# Altium schematic symbol library Isengard.SchLib: 64 symbols
Pins are listed as number, name and electrical type; pins without a type are passive.

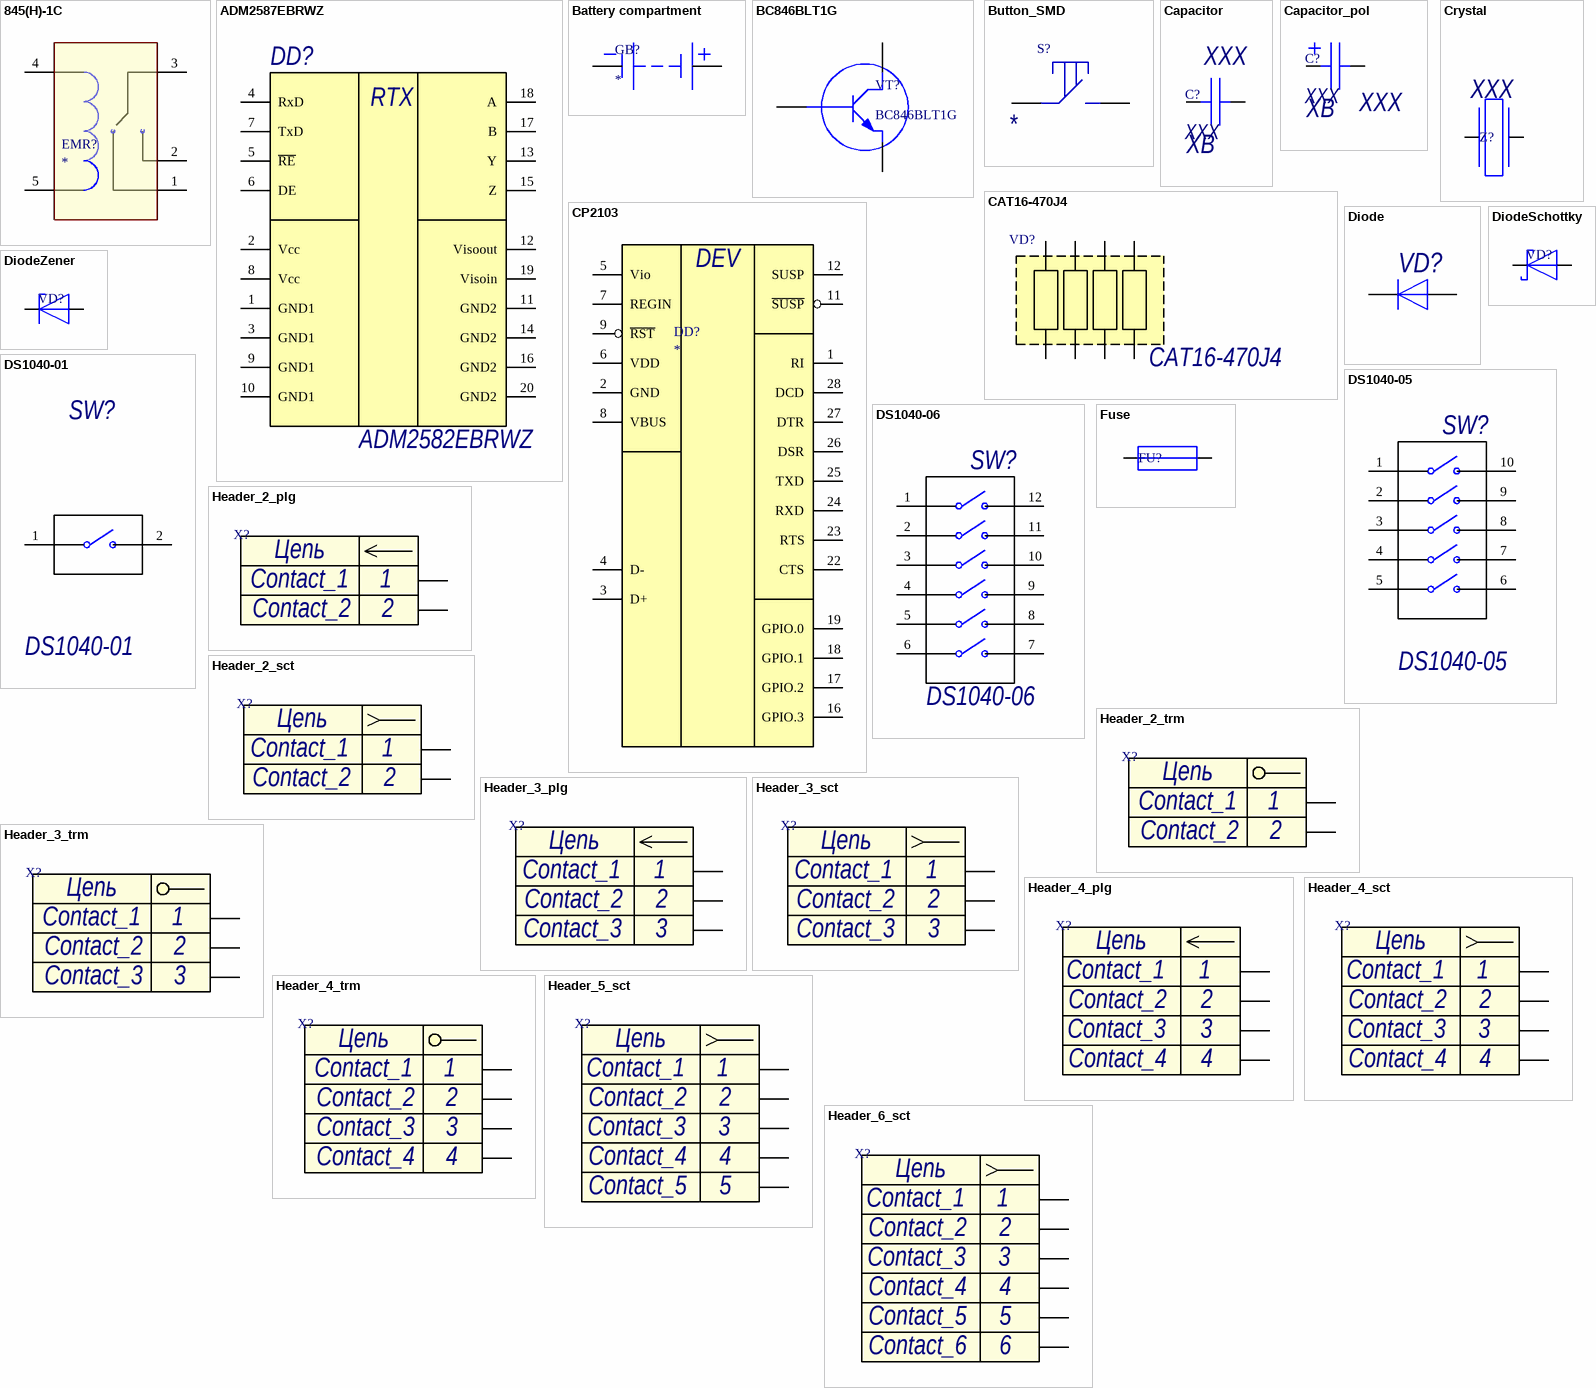
[diagram p0: symbols 845(H)-1C to Header_6_sct]

## 845(H)-1C
designator EMR?
Электромагнитное реле
footprint EMR 845(H)-1C
pins: 1 pos1, 2 pos2, 3 base, 4 sw1, 5 sw2

## ADM2587EBRWZ
designator DD?, comment ADM2582EBRWZ
Приемопередатчик RS485 изолированный; Link: *; Name: ADM2582EBRWZ
footprint SOP20
pins: 1 GND1, 2 Vcc, 3 GND1, 4 RxD, 5 ~{RE}, 6 DE, 7 TxD, 8 Vcc, 9 GND1, 10 GND1, 11 GND2, 12 Visoout, 13 Y, 14 GND2, 15 Z, 16 GND2, 17 B, 18 A, 19 Visoin, 20 GND2
text: RTX

## Battery compartment
designator GB?
Value: *
footprint KLS5-818-С (Батарейный отсек 3хААА)
pins: 1, 2

## BC846BLT1G
designator VT?
footprint SOT23-3
pins: 1 Base, 2 Emitter, 3 Collector

## Button_SMD
designator S?
Кнопка; Name: *
footprint Button_SMD (Кнопка)
footprint Button_SMD_12х12 (Кнопка)
pins: 1, 4

## Capacitor
designator C?, comment XXX  Voltage: XВ
Конденсатор; Value: XXX
footprint C0603
footprint C1206
footprint C0805
pins: 1, 2

## Capacitor_pol
designator C?, comment XXX  Voltage: XВ
Конденсатор полярный; Value: XXX
footprint SMA
footprint C1206
footprint TANTAL CASE D (Конденсатор танталовый SMD)
footprint TANTAL CASE B (Конденсатор электролитический танталовый)
pins: 1, 2

## CAT16-470J4
designator VD?
Сборка резисторов; Name: CAT16-470J4
footprint smd 0603x4 (Резисторная сборка)
pins: 1, 2, 3, 4, 5, 6, 7, 8

## CP2103
designator DD?
Преобразователь интерфейсов USB-UART
footprint CP2103 (QFN, 28-Leads, Body 5,0x5,0mm (max), Pitch 0,50mm, IPC Medium Density)
pins: 1 RI, 2 GND, 3 D+, 4 D-, 5 Vio, 6 VDD, 7 REGIN, 8 VBUS, 9 ~{RST}, 11 ~{SUSP}, 12 SUSP, 16 GPIO.3, 17 GPIO.2, 18 GPIO.1, 19 GPIO.0, 22 CTS, 23 RTS, 24 RXD, 25 TXD, 26 DSR, 27 DTR, 28 DCD
text: DEV

## Crystal
designator Z?, comment XXX
Кварцевый резонатор; Value: XXX
footprint QSMD3.2x2.5_A
footprint QSMD3.2x2.5_H
footprint HC-49SM (Кварцевый резонатор поверхностного монтажа)
pins: 1, 2

## Diode
designator VD?
Диод
footprint SOD-323
footprint SOD523
pins: 1 K, 2 A

## DiodeSchottky
designator VD?
Диод Шоттки
footprint SOD523_A
footprint SOD523_H
footprint SOD123_A
footprint SOD123_H
footprint SMA
pins: 1 K, 2 A

## DiodeZener
designator VD?
Стабилитрон
footprint SOD523_A
footprint SOD523_H
footprint SOT23-2_A
footprint SOT23-2_H
footprint SMA
pins: 1 K, 2 A

## DS1040-01
designator SW?
DIP переключатель
footprint DIP1
footprint KLS7-SS03 (Переключатель движковый)
pins: 1, 2

## DS1040-05
designator SW?
DIP переключатель
footprint DIP5
pins: 1, 2, 3, 4, 5, 6, 7, 8, 9, 10

## DS1040-06
designator SW?
DIP переключатель
footprint DIP6
pins: 1, 2, 3, 4, 5, 6, 7, 8, 9, 10, 11, 12

## Fuse
designator FU?
Предохранитель; Value: XXX
footprint R0805_H
footprint R0805_A
footprint R0603_A
footprint R0402_H
footprint FH - 102
footprint MF - R050 (Самовосстанавливающийся предохранитель)
footprint F5.1
pins: 1, 2

## Header_2_plg
designator X?
Разъем - 2 конт. вилка; Contact_1: Contact_1; Contact_2: Contact_2
footprint CWF-2
footprint Terminal_2.54-2
footprint PWL-2R
footprint PBS2-2
footprint MW-2M
footprint MW-2MR
footprint MOLEX_picoblade_2
pins: 1, 2
text: Цепь

## Header_2_sct
designator X?
Разъем - 2 конт. розетка; Contact_1: Contact_1; Contact_2: Contact_2
footprint Terminal_2.54-2
footprint PWL-2R
footprint PBS2-2
footprint MW-2M
footprint MW-2MR
footprint MOLEX_picoblade_2
footprint CWF-2
footprint 2HOLE
footprint DYNAMIC (Разъем для динамика)
footprint USB-B Micro 2pin
pins: 1, 2
text: Цепь

## Header_2_trm
designator X?
Разъем - 2 конт. клемма; Contact_1: Contact_1; Contact_2: Contact_2
footprint Terminal_2.54-2
footprint PWL-2R
footprint PBS2-2
footprint MW-2M
footprint MW-2MR
footprint MOLEX_picoblade_2
footprint MF_2x1_H
pins: 1, 2
text: Цепь

## Header_3_plg
designator X?
Разъем - 3 конт. вилка; Contact_1: Contact_1; Contact_2: Contact_2; Contact_3: Contact_3
footprint POWJACK
footprint CWF-3
footprint CWF-3R
pins: 1, 2, 3
text: Цепь

## Header_3_sct
designator X?
Разъем - 2 конт. розетка; Contact_1: Contact_1; Contact_2: Contact_2; Contact_3: Contact_3
footprint MW-3MR
footprint CWF-3
footprint CWF-3R
footprint MOLEX_picoblade_3
footprint MOLEX_picoblade_3R
footprint PWL-3R
footprint MW-3M
footprint PLS2-3
footprint 3HOLE_WIRE (3 отверстия под провода)
pins: 1, 2, 3
text: Цепь

## Header_3_trm
designator X?
Разъем - 3 конт. клемма; Contact_1: Contact_1; Contact_3: Contact_3; Contact_2: Contact_2
footprint DT-128V-3
pins: 1, 2, 3
text: Цепь

## Header_4_plg
designator X?
Разъем - 4 конт. вилка; Contact_1: Contact_1; Contact_2: Contact_2; Contact_3: Contact_3; Contact_4: Contact_4
footprint MOLEX_picoblade_4
footprint MOLEX_picoblade_4R
footprint MW-4M
footprint MW-4MR
footprint PLS-4
footprint 4HOLE_WIRE (4 отверстия под провода)
pins: 1, 2, 3, 4
text: Цепь

## Header_4_sct
designator X?
Разъем - 4 конт. розетка; Contact_1: Contact_1; Contact_2: Contact_2; Contact_3: Contact_3; Contact_4: Contact_4
footprint MOLEX_picoblade_4
footprint MOLEX_picoblade_4R
footprint MW-4M
footprint MW-4MR
footprint PLS-4
footprint USB-Mini
footprint USB-Mini - duplicate
footprint USB-Mini DIP
footprint USBB-J1
footprint USB-B Micro
footprint 4HOLE_WIRE (4 отверстия под провода)
pins: 1, 2, 3, 4
text: Цепь

## Header_4_trm
designator X?
Разъем - 3 конт. клемма; Contact_1: Contact_1; Contact_3: Contact_3; Contact_2: Contact_2; Contact_4: Contact_4
footprint DT-128V-4
footprint CWF-4
pins: 1, 2, 2, 2
text: Цепь; 3; 4

## Header_5_sct
designator X?
Разъем - 4 конт. розетка; Contact_1: Contact_1; Contact_2: Contact_2; Contact_3: Contact_3; Contact_4: Contact_4; Contact_5: Contact_5
footprint USB-B Micro
footprint MW-5M
footprint MW-5MR
footprint MOLEX_picoblade_5
footprint CWF-5R
footprint 5HOLE_WIRE (5 отверстий под провода)
pins: 1, 2, 3, 4, 5
text: Цепь

## Header_6_sct
designator X?
Разъем - 5 конт. розетка; Contact_1: Contact_1; Contact_2: Contact_2; Contact_3: Contact_3; Contact_4: Contact_4; Contact_5: Contact_5; Contact_6: Contact_6
footprint CWF-6R
footprint CWF-6
footprint 6HOLE_WIRE (6 отверстий под провода)
pins: 1, 2, 3, 4, 5, 6
text: Цепь

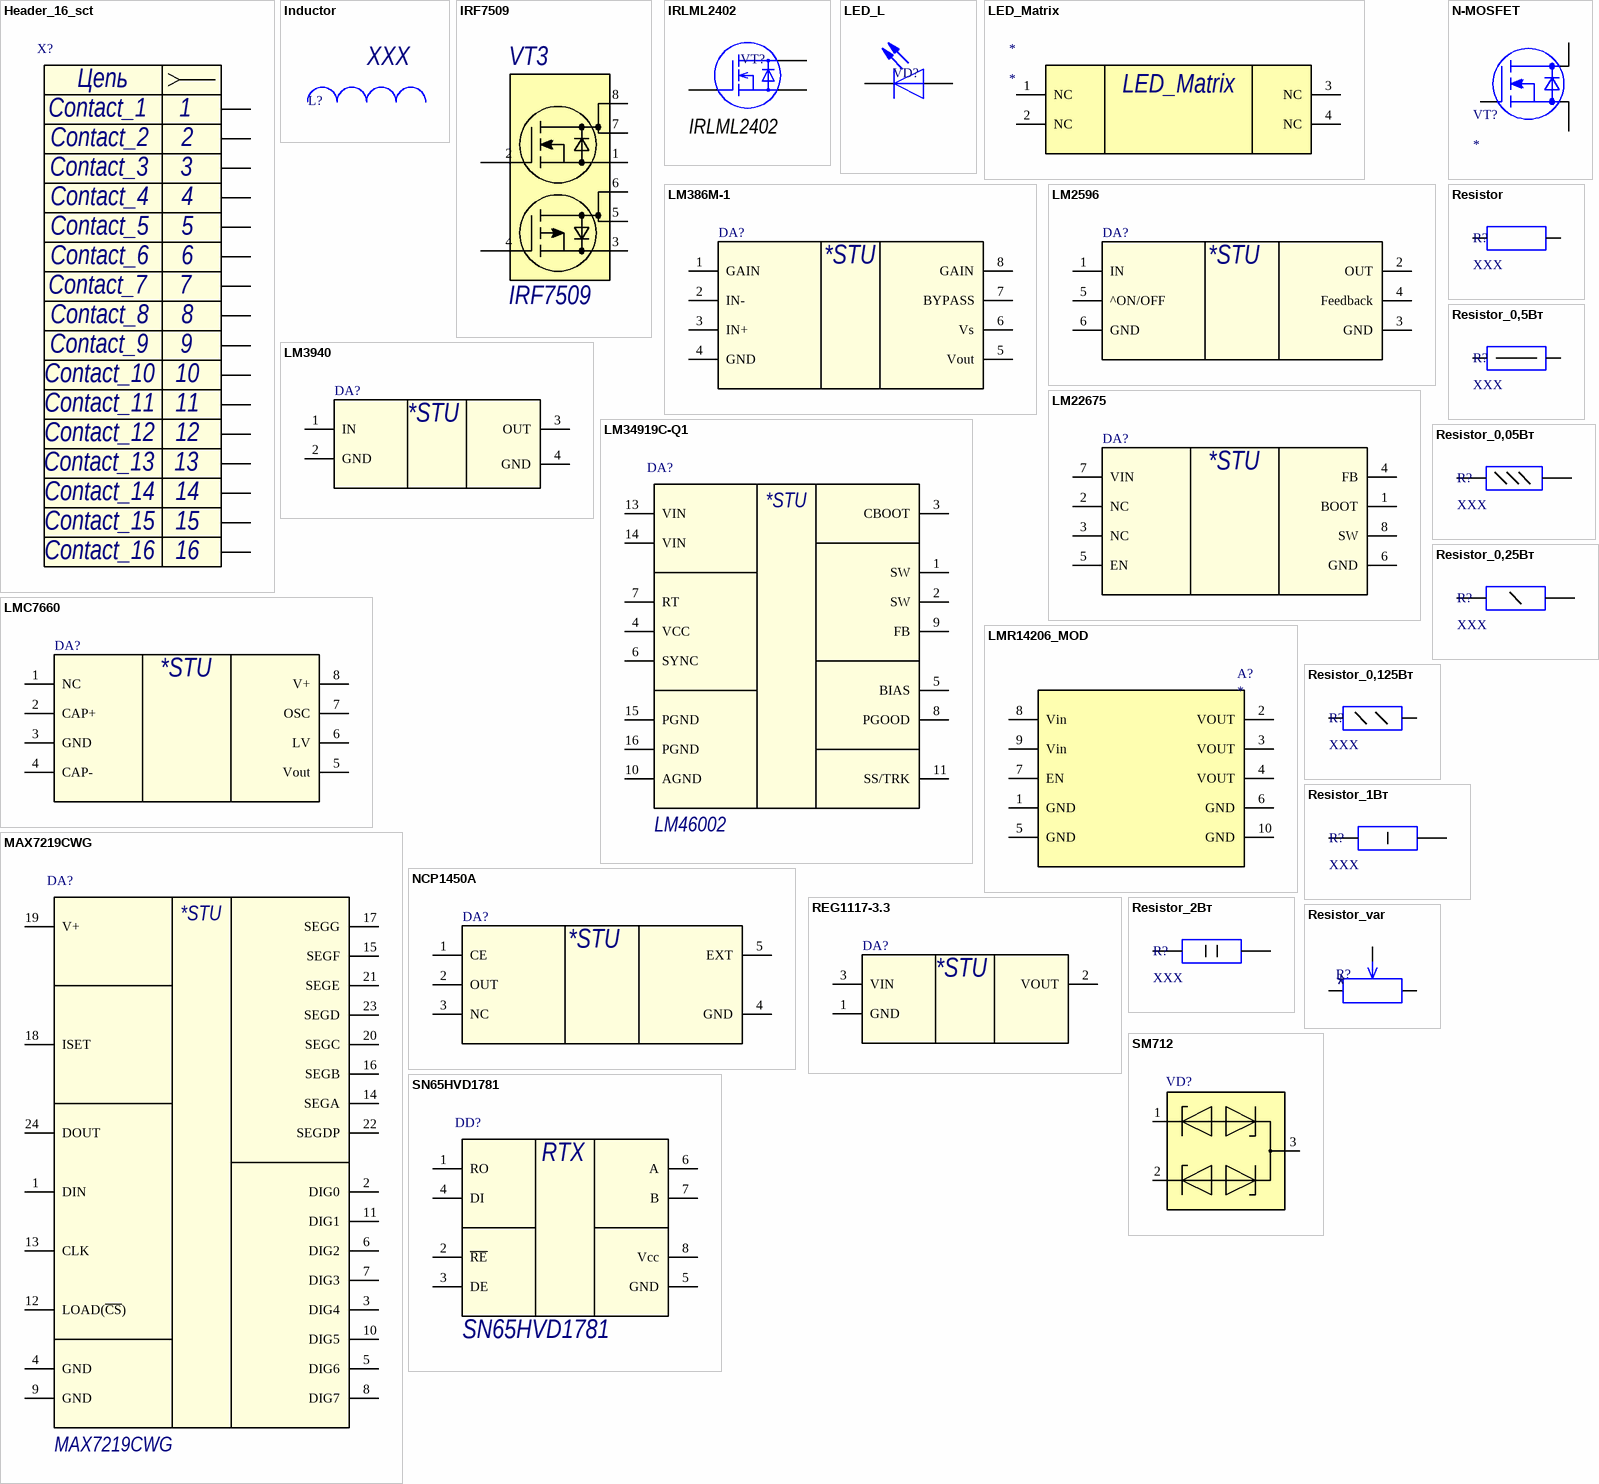
[diagram p1: symbols Header_16_sct to SN65HVD1781]

## Header_16_sct
designator X?
Разъем - 16 конт. розетка; Contact_1: Contact_1; Contact_2: Contact_2; Contact_3: Contact_3; Contact_4: Contact_4; Contact_5: Contact_5; Contact_6: Contact_6; Contact_7: Contact_7; Contact_8: Contact_8; Contact_9: Contact_9; Contact_10: Contact_10; Contact_11: Contact_11; Contact_12: Contact_12; Contact_13: Contact_13; Contact_14: Contact_14; Contact_16: Contact_16; Contact_15: Contact_15
footprint PLS-16 (LED Matrix BL-M12)
footprint PLS-16R (LED Matrix BL-M12)
pins: 1, 2, 3, 4, 5, 6, 7, 8, 9, 10, 11, 12, 13, 14, 15, 16
text: Цепь

## Inductor
designator L?, comment XXX
Катушка индуктивности; Value: XXX
footprint Ind 8.3x8.3x4
footprint IND_CDC5D23B
footprint IND_CDR74NP
footprint IND_CDRH4D28C_A
footprint IND_CDRH4D28C_H
footprint IND_CDRH104
footprint IND_CDRH127
footprint IND_RCR-875D
footprint IND_SRU1048_A
footprint IND_SRU1048_H
footprint L0603_A
footprint L0603_H
footprint L0805_A
footprint L_1210
footprint SDR0604 (SMD Power Inductors)
pins: 1, 2

## IRF7509
designator VT3
Комплементарная сборка МОП; Name: IRF7509
footprint Micro8
pins: 1 S1, 2 G1, 3 S2, 4 G2, 5 D2, 6 D2, 7 D1, 8 D1

## IRLML2402
designator VT?
MOSFET; Manufacturer: International Rectifier; Manufacturer Part Number: IRLML2402GTRPBF; FET Type: MOSFET N-Channel, Metal Oxide; FET Feature: Logic Level Gate; Drain to Source Voltage (Vdss): 20V; Current - Continuous Drain (Id) @ 25°C: 1.2A (Ta); Rds On (Max) @ Id, Vgs: 250 mOhm @ 930mA, 4.5V; Vgs(th) (Max) @ Id: 700mV @ 250µA; Gate Charge (Qg) @ Vgs: 3.9nC @ 4.5V; Input Capacitance (Ciss) @ Vds: 110pF @ 15V; Power - Max: 540mW; Supplier 1: Digi-Key; Supplier Part Number 1: IRLML2402GTRPBFTR-ND; Category: Discrete Semiconductor Products; Packaging: Tape & Reel (TR); Supplier: Digi-Key; RoHS: RoHS Compliant; Mounting Type: Surface Mount; Package / Case: TO-236-3, SC-59, SOT-23-3; Supplier Device Package: Micro3™/SOT-23; Supplier Part Number: IRLML2402GTRPBFTR-ND; Name: IRLML2402
footprint SOT23-3_A
footprint SOT23-3_H
pins: 1 G, 2 S, 3 D

## LED_L
designator VD?
Светодиод
footprint D0603_A
footprint D0603_H
footprint L_0805
pins: 1 K, 2 A

## LED_Matrix
designator *
Contact_1: GND; Contact_4: GND; Contact_3: GND; Contact_2: GND
footprint LED_Matrix (Светодиодная матрица 8х8 32х32)
pins: 1 NC, 2 NC, 3 NC, 4 NC

## LM386M-1
designator DA?
Low Voltage Audio Power Amplifier
footprint MSOP8
footprint SO8_A
pins: 1 GAIN (power), 2 IN- (power), 3 IN+ (power), 4 GND (power), 5 Vout (power), 6 Vs (power), 7 BYPASS (power), 8 GAIN (power)
text: *STU

## LM2596
designator DA?
3-A Step-Down Voltage Regulator
footprint TO-263
pins: 1 IN (power), 2 OUT (power), 3 GND (power), 4 Feedback (power), 5 ^ON/OFF (power), 6 GND (power)
text: *STU

## LM3940
designator DA?
Low-Dropout Regulator for 5-V to 3.3-V Conversion
footprint SOT223
pins: 1 IN (power), 2 GND (power), 3 OUT (power), 4 GND (power)
text: *STU

## LM22675
designator DA?
3-A Step-Down Voltage Regulator
footprint HSOP
pins: 1 BOOT (power), 2 NC (power), 3 NC (power), 4 FB (power), 5 EN (power), 6 GND (power), 7 VIN (power), 8 SW (power)
text: *STU

## LM34919C-Q1
designator DA?, comment LM46002
DC\DC; Name: LM46002
footprint HTSSOP10
pins: 1 SW, 2 SW, 3 CBOOT, 4 VCC, 5 BIAS, 6 SYNC, 7 RT, 8 PGOOD, 9 FB, 10 AGND, 11 SS/TRK, 13 VIN, 14 VIN, 15 PGND, 16 PGND
text: *STU

## LMC7660
designator DA?
Voltage Converter Invertor
footprint SO8_A
pins: 1 NC (power), 2 CAP+ (power), 3 GND (power), 4 CAP- (power), 5 Vout (power), 6 LV (power), 7 OSC (power), 8 V+ (power)
text: *STU

## LMR14206_MOD
designator A?
DC/DC
footprint LMR14206_MOD
pins: 1 GND, 2 VOUT, 3 VOUT, 4 VOUT, 5 GND, 6 GND, 7 EN, 8 Vin, 9 Vin, 10 GND

## MAX7219CWG
designator DA?
Serially Interfaced, 8-Digit LED Display Drivers; Name: MAX7219CWG
footprint SOIC24 (SOIC, 24-Leads, Body 15,4x7,6mm, Pitch 1,27mm, IPC Medium Density)
pins: 1 DIN, 2 DIG0, 3 DIG4, 4 GND, 5 DIG6, 6 DIG2, 7 DIG3, 8 DIG7, 9 GND, 10 DIG5, 11 DIG1, 12 LOAD(~{CS}), 13 CLK, 14 SEGA, 15 SEGF, 16 SEGB, 17 SEGG, 18 ISET, 19 V+, 20 SEGC, 21 SEGE, 22 SEGDP, 23 SEGD, 24 DOUT
text: *STU

## N-MOSFET
designator VT?
N-MOSFET; Name: *; Vgs: *; Vds: *; Ids: *
footprint SOT23-3_A
footprint SOT23-3_H
pins: 1 G, 2 S, 3 D

## NCP1450A
designator DA?
PWM Step−up DC−DC  Controller
footprint SOT23-5
pins: 1 CE (power), 2 OUT (power), 3 NC (power), 4 GND (power), 5 EXT (power)
text: *STU

## REG1117-3.3
designator DA?
Low-Dropout Regulator for 5-V to 3.3-V Conversion
footprint SOT223
pins: 1 GND (power), 2 VOUT (power), 3 VIN (power)
text: *STU

## Resistor
designator R?, comment XXX
Резистор; Value: XXX
footprint R0805_A
footprint R0805_H
pins: 1, 2

## Resistor_0,5Вт
designator R?, comment XXX
Резистор; Value: XXX
footprint R0805_A
footprint R0805_H
pins: 1, 2

## Resistor_0,05Вт
designator R?, comment XXX
Резистор; Value: XXX
footprint R0805_A
footprint R0805_H
footprint R0603
pins: 1, 2

## Resistor_0,25Вт
designator R?, comment XXX
Резистор; Value: XXX
footprint R0805_A
footprint R0805_H
footprint R0603
pins: 1, 2 5

## Resistor_0,125Вт
designator R?, comment XXX
Резистор; Value: XXX
footprint R0805 (Chip Resistor, 2-Leads, Body 2,10x1,30mm, IPC Medium Density)
footprint R0603
pins: 1, 2 5

## Resistor_1Вт
designator R?, comment XXX
Резистор; Value: XXX
footprint R0805_A
footprint R0805_H
footprint R0603
pins: 1, 2

## Resistor_2Вт
designator R?, comment XXX
Резистор; Value: XXX
footprint R0805_A
footprint R0805_H
footprint R0603
pins: 1, 2

## Resistor_var
designator R?
Value: *
pins: 1, 2, 3

## SM712
designator VD?
TVS
footprint SOT23-3_A
footprint SOT23-3_H
footprint SOT23-3
pins: 1, 2 1, 3

## SN65HVD1781
designator DD?
Приемопередатчик RS485; Name: SN65HVD1781
footprint SO8_A
footprint SO8_H
pins: 1 RO, 2 ~{RE}, 3 DE, 4 DI, 5 GND, 6 A, 7 B, 8 Vcc
text: RTX

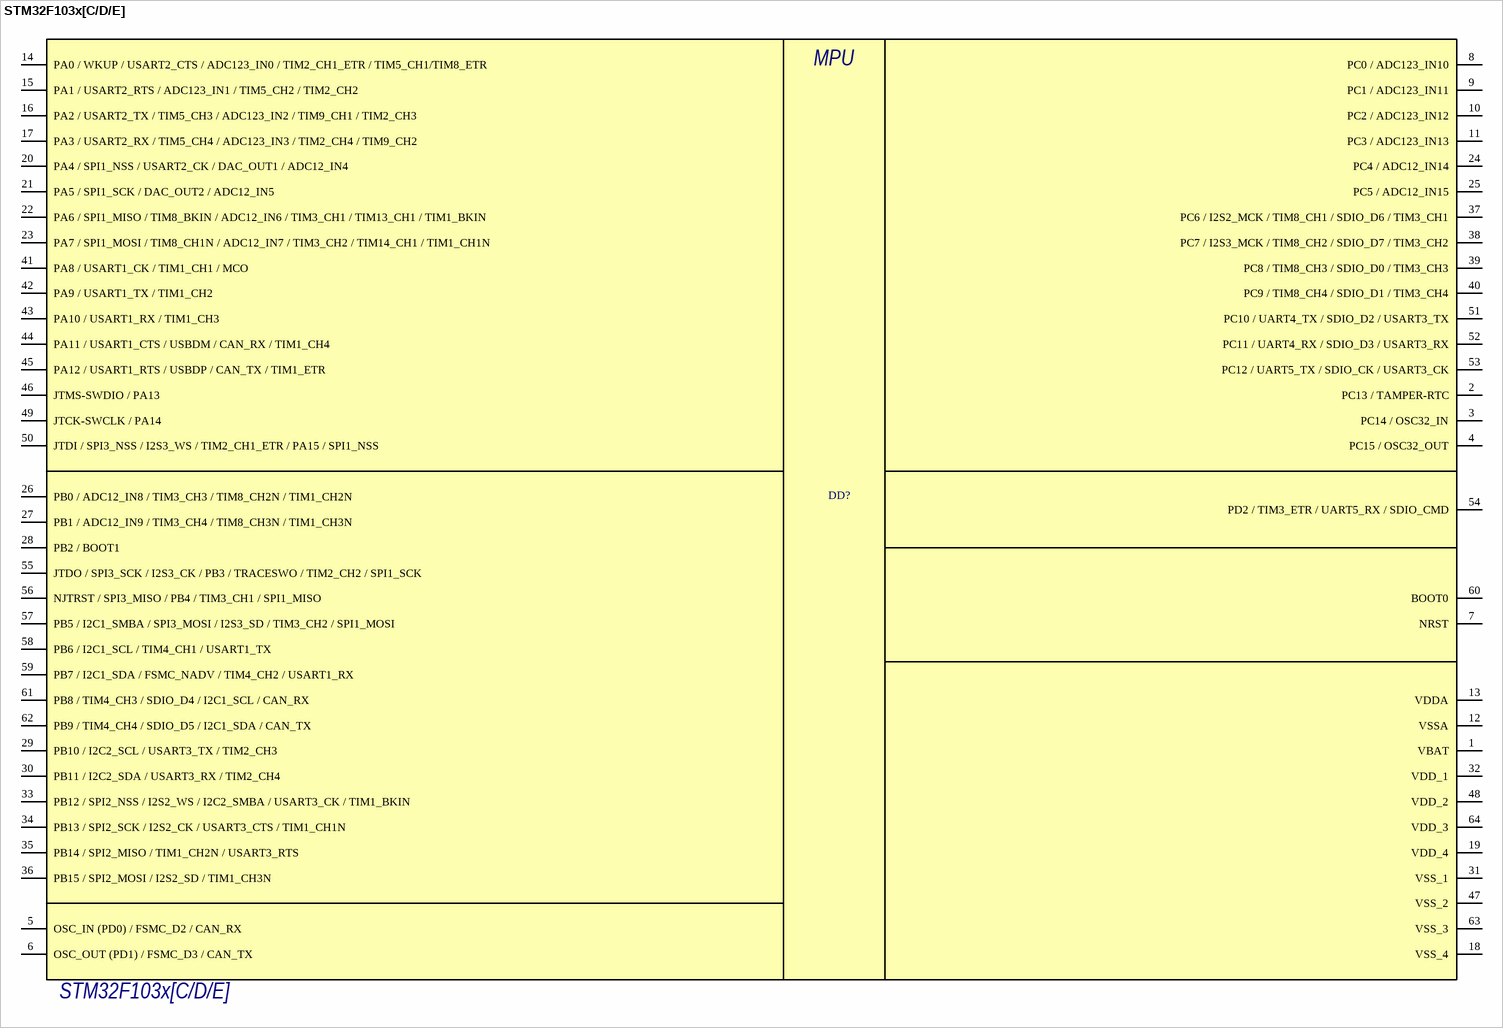
[diagram p2: symbol STM32F103x[C/D/E]]

## STM32F103x[C/D/E]
designator DD?
Микроконтроллер 64-pin; Name: STM32F103x[C/D/E]
footprint LQFP64_H (64-Pin Low Profile Quad Pack 0.5 mm Pitch, IPC High Density)
pins: 1 VBAT, 2 PC13 / TAMPER-RTC, 3 PC14 / OSC32_IN, 4 PC15 / OSC32_OUT, 5 OSC_IN (PD0) / FSMC_D2 / CAN_RX, 6 OSC_OUT (PD1) / FSMC_D3 / CAN_TX, 7 NRST, 8 PC0 / ADC123_IN10, 9 PC1 / ADC123_IN11, 10 PC2 / ADC123_IN12, 11 PC3 / ADC123_IN13, 12 VSSA, 13 VDDA, 14 PA0 / WKUP / USART2_CTS / ADC123_IN0 / TIM2_CH1_ETR / TIM5_CH1/TIM8_ETR, 15 PA1 / USART2_RTS / ADC123_IN1 / TIM5_CH2 / TIM2_CH2, 16 PA2 / USART2_TX / TIM5_CH3 / ADC123_IN2 / TIM9_CH1 / TIM2_CH3, 17 PA3 / USART2_RX / TIM5_CH4 / ADC123_IN3 / TIM2_CH4 / TIM9_CH2, 18 VSS_4, 19 VDD_4, 20 PA4 / SPI1_NSS / USART2_CK / DAC_OUT1 / ADC12_IN4, 21 PA5 / SPI1_SCK / DAC_OUT2 / ADC12_IN5, 22 PA6 / SPI1_MISO / TIM8_BKIN / ADC12_IN6 / TIM3_CH1 / TIM13_CH1 / TIM1_BKIN, 23 PA7 / SPI1_MOSI / TIM8_CH1N / ADC12_IN7 / TIM3_CH2 / TIM14_CH1 / TIM1_CH1N, 24 PC4 / ADC12_IN14, 25 PC5 / ADC12_IN15, 26 PB0 / ADC12_IN8 / TIM3_CH3 / TIM8_CH2N / TIM1_CH2N, 27 PB1 / ADC12_IN9 / TIM3_CH4 / TIM8_CH3N / TIM1_CH3N, 28 PB2 / BOOT1, 29 PB10 / I2C2_SCL / USART3_TX / TIM2_CH3, 30 PB11 / I2C2_SDA / USART3_RX / TIM2_CH4, 31 VSS_1, 32 VDD_1, 33 PB12 / SPI2_NSS / I2S2_WS / I2C2_SMBA / USART3_CK / TIM1_BKIN, 34 PB13 / SPI2_SCK / I2S2_CK / USART3_CTS / TIM1_CH1N, 35 PB14 / SPI2_MISO / TIM1_CH2N / USART3_RTS, 36 PB15 / SPI2_MOSI / I2S2_SD / TIM1_CH3N , 37 PC6 / I2S2_MCK / TIM8_CH1 / SDIO_D6 / TIM3_CH1, 38 PC7 / I2S3_MCK / TIM8_CH2 / SDIO_D7 / TIM3_CH2, 39 PC8 / TIM8_CH3 / SDIO_D0 / TIM3_CH3, 40 PC9 / TIM8_CH4 / SDIO_D1 / TIM3_CH4, 41 PA8 / USART1_CK / TIM1_CH1 / MCO, 42 PA9 / USART1_TX / TIM1_CH2, 43 PA10 / USART1_RX / TIM1_CH3, 44 PA11 / USART1_CTS / USBDM / CAN_RX / TIM1_CH4, 45 PA12 / USART1_RTS / USBDP / CAN_TX / TIM1_ETR, 46 JTMS-SWDIO / PA13, 47 VSS_2, 48 VDD_2, 49 JTCK-SWCLK / PA14, 50 JTDI / SPI3_NSS / I2S3_WS / TIM2_CH1_ETR / PA15 / SPI1_NSS, 51 PC10 / UART4_TX / SDIO_D2 / USART3_TX, 52 PC11 / UART4_RX / SDIO_D3 / USART3_RX, 53 PC12 / UART5_TX / SDIO_CK / USART3_CK, 54 PD2 / TIM3_ETR / UART5_RX / SDIO_CMD, 55 JTDO / SPI3_SCK / I2S3_CK / PB3 / TRACESWO / TIM2_CH2 / SPI1_SCK, 56 NJTRST / SPI3_MISO / PB4 / TIM3_CH1 / SPI1_MISO, 57 PB5 / I2C1_SMBA / SPI3_MOSI / I2S3_SD / TIM3_CH2 / SPI1_MOSI, 58 PB6 / I2C1_SCL / TIM4_CH1 / USART1_TX, 59 PB7 / I2C1_SDA / FSMC_NADV / TIM4_CH2 / USART1_RX, 60 BOOT0, 61 PB8 / TIM4_CH3 / SDIO_D4 / I2C1_SCL / CAN_RX, 62 PB9 / TIM4_CH4 / SDIO_D5 / I2C1_SDA / CAN_TX, 63 VSS_3, 64 VDD_3
text: MPU

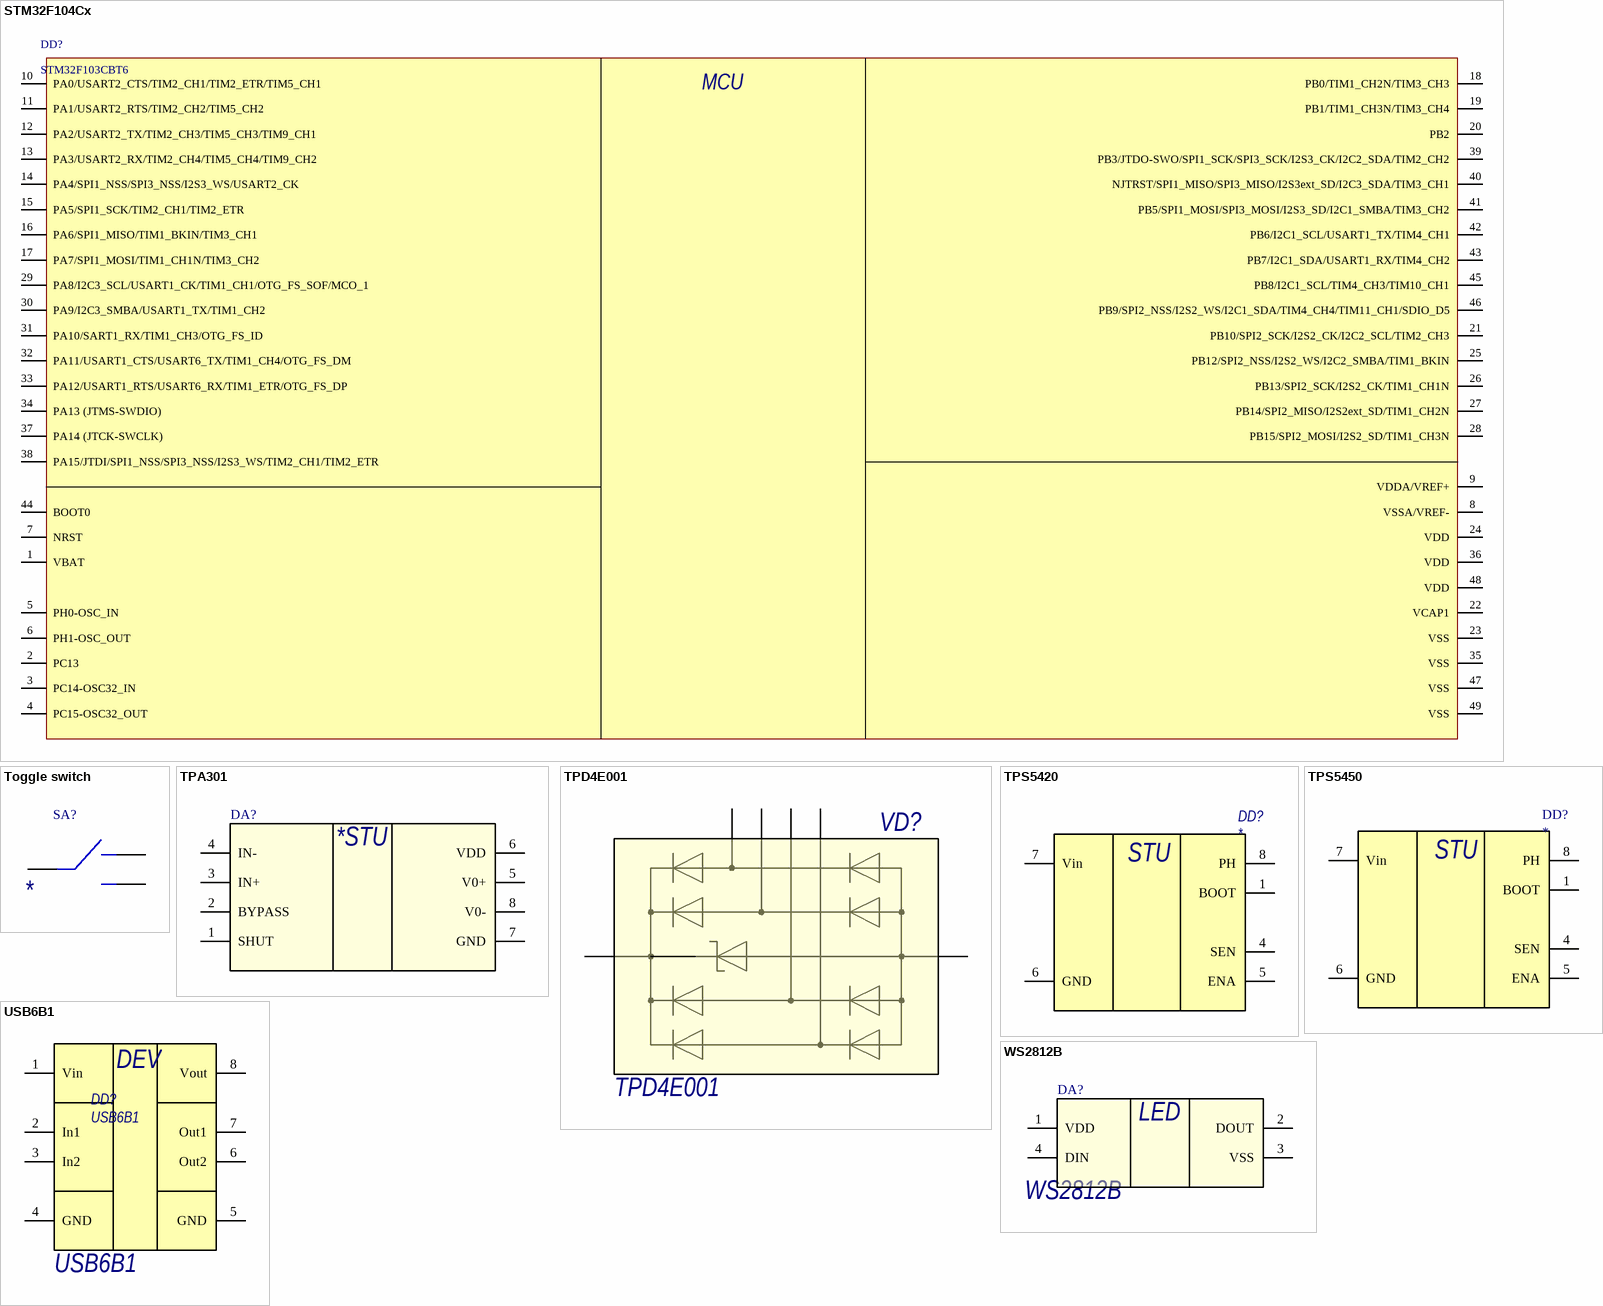
[diagram p3: symbols STM32F104Cx to WS2812B]

## STM32F104Cx
designator DD?, comment STM32F103CBT6
Name: STM32F103CBT6
footprint UFQFPN48
footprint LQFP48_N (Thin QFP, 48-Leads, Body 7x7mm, Pitch 0.5mm, IPC Medium Density)
pins: 1 VBAT, 2 PC13, 3 PC14-OSC32_IN, 4 PC15-OSC32_OUT, 5 PH0-OSC_IN, 6 PH1-OSC_OUT, 7 NRST, 8 VSSA/VREF-, 9 VDDA/VREF+, 10 PA0/USART2_CTS/TIM2_CH1/TIM2_ETR/TIM5_CH1, 11 PA1/USART2_RTS/TIM2_CH2/TIM5_CH2, 12 PA2/USART2_TX/TIM2_CH3/TIM5_CH3/TIM9_CH1, 13 PA3/USART2_RX/TIM2_CH4/TIM5_CH4/TIM9_CH2, 14 PA4/SPI1_NSS/SPI3_NSS/I2S3_WS/USART2_CK, 15 PA5/SPI1_SCK/TIM2_CH1/TIM2_ETR, 16 PA6/SPI1_MISO/TIM1_BKIN/TIM3_CH1, 17 PA7/SPI1_MOSI/TIM1_CH1N/TIM3_CH2, 18 PB0/TIM1_CH2N/TIM3_CH3, 19 PB1/TIM1_CH3N/TIM3_CH4, 20 PB2, 21 PB10/SPI2_SCK/I2S2_CK/I2C2_SCL/TIM2_CH3, 22 VCAP1, 23 VSS, 24 VDD, 25 PB12/SPI2_NSS/I2S2_WS/I2C2_SMBA/TIM1_BKIN, 26 PB13/SPI2_SCK/I2S2_CK/TIM1_CH1N, 27 PB14/SPI2_MISO/I2S2ext_SD/TIM1_CH2N, 28 PB15/SPI2_MOSI/I2S2_SD/TIM1_CH3N, 29 PA8/I2C3_SCL/USART1_CK/TIM1_CH1/OTG_FS_SOF/MCO_1, 30 PA9/I2C3_SMBA/USART1_TX/TIM1_CH2, 31 PA10/SART1_RX/TIM1_CH3/OTG_FS_ID, 32 PA11/USART1_CTS/USART6_TX/TIM1_CH4/OTG_FS_DM, 33 PA12/USART1_RTS/USART6_RX/TIM1_ETR/OTG_FS_DP, 34 PA13 (JTMS-SWDIO), 35 VSS, 36 VDD, 37 PA14 (JTCK-SWCLK), 38 PA15/JTDI/SPI1_NSS/SPI3_NSS/I2S3_WS/TIM2_CH1/TIM2_ETR, 39 PB3/JTDO-SWO/SPI1_SCK/SPI3_SCK/I2S3_CK/I2C2_SDA/TIM2_CH2, 40 NJTRST/SPI1_MISO/SPI3_MISO/I2S3ext_SD/I2C3_SDA/TIM3_CH1, 41 PB5/SPI1_MOSI/SPI3_MOSI/I2S3_SD/I2C1_SMBA/TIM3_CH2, 42 PB6/I2C1_SCL/USART1_TX/TIM4_CH1, 43 PB7/I2C1_SDA/USART1_RX/TIM4_CH2, 44 BOOT0, 45 PB8/I2C1_SCL/TIM4_CH3/TIM10_CH1, 46 PB9/SPI2_NSS/I2S2_WS/I2C1_SDA/TIM4_CH4/TIM11_CH1/SDIO_D5, 47 VSS, 48 VDD, 49 VSS
text: MСU

## Toggle switch
designator SA?
переключатель однопозиционный; Name: *
footprint MRS-101-2C3-R (Переключатель ON-OFF (3A 250VAC) SPST 2P, красная клавиша)
footprint KLS7-SS03 (Переключатель движковый)
pins: 1, 2, 3

## TPA301
designator DA?
MONO AUDIO POWER AMPLIFIER
footprint MSOP8
pins: 1 SHUT (power), 2 BYPASS (power), 3 IN+ (power), 4 IN- (power), 5 V0+ (power), 6 VDD (power), 7 GND (power), 8 V0- (power)
text: *STU

## TPD4E001
designator VD?
Диодная сборка; Manufacturer: Texas Instruments; Name: TPD4E001
footprint SOT23-6
pins: 1 IO1, 2 GND, 3 IO2, 4 IO3, 5 VCC, 6 IO4

## TPS5420
designator DD?
footprint SO8_A
footprint SO8_H
pins: 1 BOOT, 4 SEN, 5 ENA, 6 GND, 7 Vin, 8 PH
text: STU

## TPS5450
designator DD?
footprint SO8_A PowerPad
pins: 1 BOOT, 4 SEN, 5 ENA, 6 GND, 7 Vin, 8 PH
text: STU

## USB6B1
designator DD?
Защита USB; Name: USB6B1
footprint SO8_H
pins: 1 Vin, 2 In1, 3 In2, 4 GND, 5 GND, 6 Out2, 7 Out1, 8 Vout
text: DEV

## WS2812B
designator DA?
Светодиод SMD RGB с пиксельной адресацией; Name: WS2812B
footprint WS2812B (Светодиод SMD RGB с пиксельной адресацией)
pins: 1 VDD (power), 2 DOUT (power), 3 VSS (power), 4 DIN (power)
text: LED